# Altium schematic symbol library MotorDriver.SchLib: 1 symbol
Pins are listed as number, name and electrical type; pins without a type are passive.

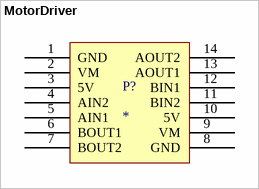
[diagram p0: symbol MotorDriver]

## MotorDriver
designator P?
footprint Motor Driver
pins: 1 GND, 2 VM, 3 5V, 4 AIN2, 5 AIN1, 6 BOUT1, 7 BOUT2, 8 GND, 9 VM, 10 5V, 11 BIN2, 12 BIN1, 13 AOUT1, 14 AOUT2